# EAGLE library part SWITCH_8 (library Public)
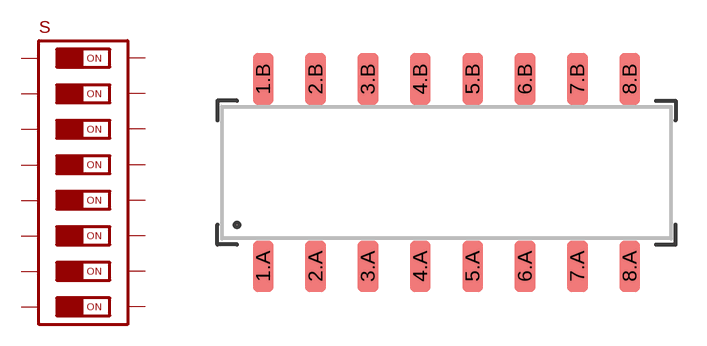
[diagram p52: symbol with the pads of CFS-08XX-XB; footprint CFS-08XX-XB]

Designator prefix S

## SWITCH_8(CFS)  [CFS-08XX-XB]
1.A  1_OFF
1.B  1_ON
2.A  2_OFF
2.B  2_ON
3.A  3_OFF
3.B  3_ON
4.A  4_OFF
4.B  4_ON
5.A  5_OFF
5.B  5_ON
6.A  6_OFF
6.B  6_ON
7.A  7_OFF
7.B  7_ON
8.A  8_OFF
8.B  8_ON

## Footprint CFS-08XX-XB (pad centres in mm)
smd 1 x 2.5: 1.A -8.89,-4.55; 1.B -8.89,4.55; 2.A -6.35,-4.55; 2.B -6.35,4.55; 3.A -3.81,-4.55; 3.B -3.81,4.55; 4.A -1.27,-4.55; 4.B -1.27,4.55; 5.A 1.27,-4.55; 5.B 1.27,4.55; 6.A 3.81,-4.55; 6.B 3.81,4.55; 7.A 6.35,-4.55; 7.B 6.35,4.55; 8.A 8.89,-4.55; 8.B 8.89,4.55